# EAGLE library part NE555 (library st-microelectronics)
General purpose bipolar Timer
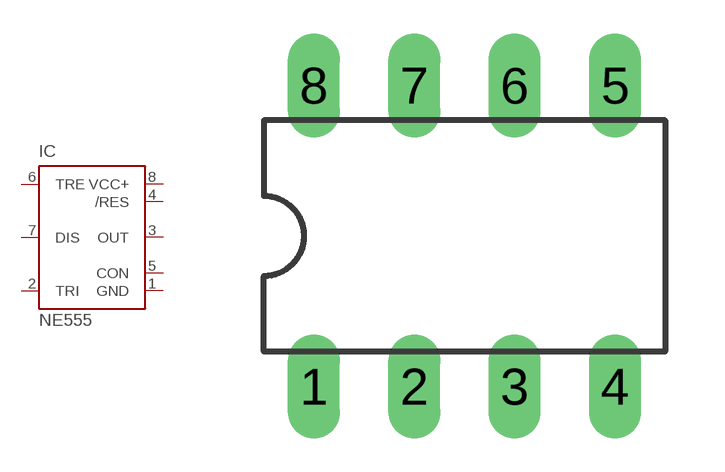
[diagram p34: symbol with the pads of DIL-08; footprint DIL-08]

Designator prefix IC

## NE555  [DIL-08]
1  GND  pwr
2  TRI  in
3  OUT  out
4  /RES  in
5  CON  in
6  TRE  in
7  DIS  in
8  VCC+  pwr

## Footprint DIL-08 (pad centres in mm)
Dual In Line Package
drill 0.813 long: 1 -3.81,-3.81; 2 -1.27,-3.81; 3 1.27,-3.81; 4 3.81,-3.81; 5 3.81,3.81; 6 1.27,3.81; 7 -1.27,3.81; 8 -3.81,3.81